# Altium footprint library SolderJumper20mil.PcbLib: 3 footprints
Each footprint in its own frame and in the unit in brackets; x right, y up, seen from the top. Pads: shape width x height; smd on the part's side, far side on the other; paste and mask are expansions set on the pad; w line width, h text height; cw(c..) or ccw(c..) is an arc to the next point about the centre after c.
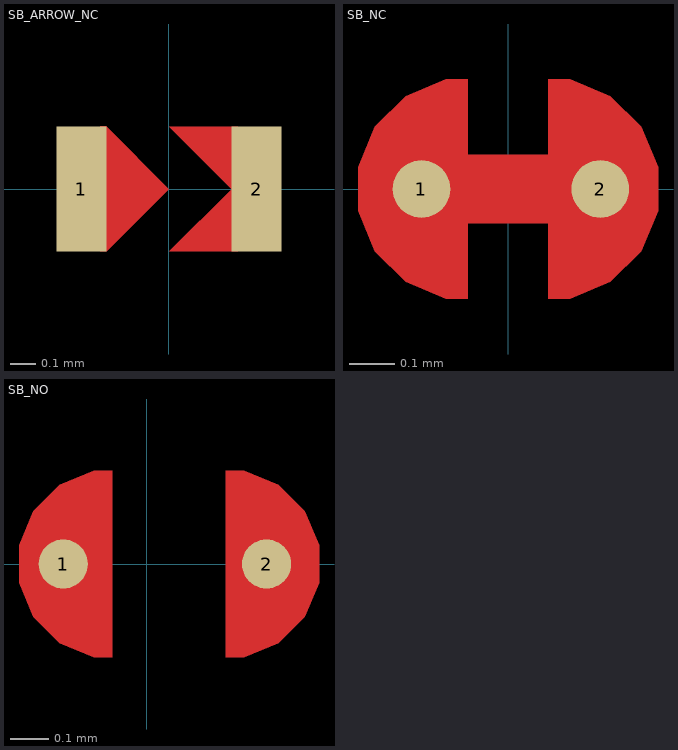
[diagram p0: the footprints below, top view; thin cyan lines are the x and y axes]

## SB_ARROW_NC [mm] "Solder Bridge Arrow, Normally Open"
pads (2):
  rect 0.2x0.5 smd paste-1 mask-1: 1(-0.35,0) 2(0.35,0)
Top Layer:
  region: 0,0.25 0.25,0 0,-0.25 0.275,-0.25 0.275,0.25
  region: -0.275,-0.25 -0.25,-0.25 0,0 -0.25,0.25 -0.275,0.25
Top Paste:
  rectangle: -0.55,-0.35 0.55,0.35
Top Solder:
  rectangle: -0.55,-0.35 0.55,0.35

## SB_NC [mil] "Solder Bridge, Normally Closed"
pads (2):
  round 5 smd paste-20 mask-1: 1(-7.5,0) 2(8,0)
Top Layer:
  region: -13,0 -13,1.89 -11.55,5.38 -8.88,8.05 -5.39,9.5 -3.5,9.5 -3.5,-9.5 -5.39,-9.5 -8.88,-8.05 -11.55,-5.38 -13,-1.89
  region: 13,0 13,-1.89 11.55,-5.38 8.88,-8.05 5.39,-9.5 3.5,-9.5 3.5,9.5 5.39,9.5 8.88,8.05 11.55,5.38 13,1.89
  lines w6: -7.5,0 8,0
Top Solder:
  circle w8.86: c3.94,0 r4.43
  circle w8.86: c-3.94,0 r4.43
  rectangle: -3.94,-8.86 3.94,8.86

## SB_NO [mil] "Solder Bridge, Normally Open"
pads (2):
  round 5 smd paste-20 mask-1: 1(-8.5,0) 2(12.17,0)
Top Layer:
  region: 17.5,0 17.5,-1.89 16.05,-5.38 13.38,-8.05 9.89,-9.5 8,-9.5 8,9.5 9.89,9.5 13.38,8.05 16.05,5.38 17.5,1.89
  region: -13,0 -13,1.89 -11.55,5.38 -8.88,8.05 -5.39,9.5 -3.5,9.5 -3.5,-9.5 -5.39,-9.5 -8.88,-8.05 -11.55,-5.38 -13,-1.89
Top Solder:
  rectangle: -13,-8.86 17.5,8.86